# Altium footprint library L865_V4_PCB.PcbLib: 20 footprints (part 2 of 2)
Each footprint in its own frame and in the unit in brackets; x right, y up, seen from the top. Pads: shape width x height; smd on the part's side, far side on the other; paste and mask are expansions set on the pad; w line width, h text height; cw(c..) or ccw(c..) is an arc to the next point about the centre after c.
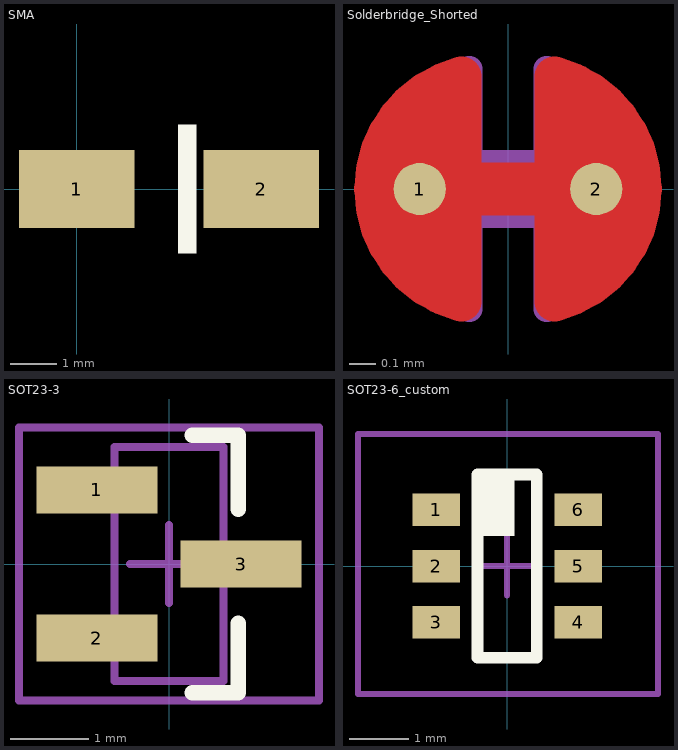
[diagram p1: the footprints below, top view; thin cyan lines are the x and y axes]

## SMA [mm] "Diodes Inc. SMA"
height 2.4
pads (2):
  rect 2.5x1.7 smd: 1(0,0) 2(4,0)
Top Overlay:
  rectangle: 2.2,-1.4 2.6,1.4
3D body "User Library-DO-214AC(SMA).step": height 2.29, standoff 0.01, extent -0.743,-1.397 4.743,1.397

## Solderbridge_Shorted [mm]
pads (2):
  round 0.2 smd paste-10: 1(-0.338,0) 2(0.338,0)
Top Layer:
  region: -0.102,-0.432 -0.178,-0.505 -0.296,-0.467 -0.361,-0.424 -0.434,-0.351 -0.488,-0.292 -0.546,-0.193 -0.574,-0.099 -0.569,0.122 -0.544,0.193 -0.46,0.33 -0.376,0.411 -0.284,0.469 -0.183,0.5 -0.132,0.483 -0.102,0.43
  region: 0.102,0.432 0.178,0.505 0.296,0.467 0.361,0.424 0.434,0.351 0.488,0.292 0.546,0.193 0.574,0.099 0.569,-0.122 0.544,-0.193 0.46,-0.33 0.376,-0.411 0.284,-0.469 0.183,-0.5 0.132,-0.483 0.102,-0.43
  lines w0.152: -0.178,-0.431 cw(c-0.068,0) -0.178,0.431 ; 0.178,-0.431 ccw(c0.068,0) 0.178,0.431
  lines w0.203: -0.338,0 0.338,0
Top Solder:
  circle w0.61: c0.028,0 r0.279
  circle w0.61: c-0.028,0 r0.279
Mechanical 7:
  lines w0.1: -0.148,-0.459 cw(c-0.067,0) -0.148,0.459 -0.148,0.1 0.148,0.1 0.148,0.459 cw(c0.067,0) 0.148,-0.459 0.148,-0.1 -0.148,-0.1 -0.148,-0.459

## SOT23-3 [mm] "3-Leads, Body 3,0x2,6mm (max), Pitch 0,95mm, IPC Medium Density"
height 1.1
pads (3):
  rect 1.55x0.6 smd: 1(-0.925,0.95) 2(-0.925,-0.95) 3(0.925,0)
Top Overlay:
  lines w0.2: 0.3,-1.651 0.889,-1.651 0.889,-0.762 ; 0.3,1.651 0.889,1.651 0.889,0.7
Mechanical 13:
  lines w0.1: -0.7,-1.5 -0.7,1.5 0.7,1.5 0.7,-1.5 -0.7,-1.5
Mechanical 15:
  lines w0.1: -0.5,0 0.5,0 ; 0,-0.5 0,0.5 ; -1.925,-1.75 -1.925,1.75 1.925,1.75 1.925,-1.75 -1.925,-1.75
3D body: height 1.1, standoff 0.1, extent -0.7,-1.5 0.7,1.5

## SOT23-6_custom [mm]
pads (6):
  rect 0.8x0.55 smd: 1(-1.2,0.95) 2(-1.2,0) 3(-1.2,-0.95) 4(1.2,-0.95) 5(1.2,0) 6(1.2,0.95)
Top Overlay:
  rectangle: -0.499,0.507 0.128,1.549
  lines w0.2: -0.5,-1.55 0.5,-1.55 0.5,1.55 -0.5,1.55 -0.5,-1.55
Mechanical 15:
  lines w0.1: -0.5,0 0.5,0 ; 0,-0.5 0,0.5 ; -2.52,-2.16 -2.52,2.23 2.55,2.23 2.55,-2.16 -2.52,-2.16
3D body "sot_23_6.STEP": height 1, standoff 0, extent -1.22,-1.48 1.12,1.44